# EAGLE library part RCD-24-0.70 (library openag-regulators)
Recom Power - RCD-24-0.70 - LED SUPPLY CC BUCK 2-35V 700MA Description: 700mA 2 ~ 35 V Constant Current LED Driver Buck Topology 1 Output Technical Specifications: Output Current: 700mA Input Voltage: 4.5V ~ 36V Output Voltage: 2V ~ 35V Dimming: Analog, PWM Analogue Dimming Input Voltage Limit (Vref Version): -0.3V ~ 5V Analogue Dimming Max Drive Current (Vc=5V): 0.2mA Operating Temperature: -40°C ~ 71°C Efficiency: 96% Datasheet(s): RCD-24 Series <https://www.recom-power.com/pdf/Lightline/RCD-24.pdf> Vendors: Digikey: 945-1123-ND <https://www.digikey.com/product-detail/en/recom-power/RCD-24-0.70/945-1123-ND/2256303>
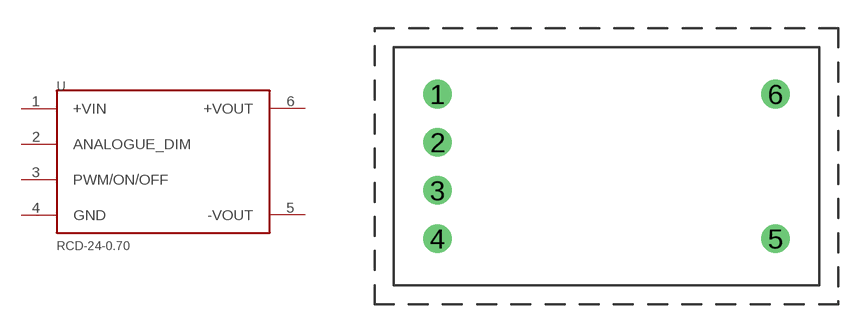
[diagram p0: symbol with the pads of RCD-24-PINNED; footprint RCD-24-PINNED]

Designator prefix U

## RCD-24-0.70 (POPULATE: YES; VALUE: RCD-24-0.70; VERIFIED: NO)  [RCD-24-PINNED]
1  +VIN  pwr
2  ANALOGUE_DIM
3  PWM/ON/OFF
4  GND  pwr
5  -VOUT  pwr
6  +VOUT  pwr

## Footprint RCD-24-PINNED (pad centres in mm)
drill 1: 1 0,0; 2 0,-2.54; 3 0,-5.08; 4 0,-7.62; 5 17.78,-7.62; 6 17.78,0